# Altium footprint library M20-9990245.PcbLib: 1 footprints
Each footprint in its own frame and in the unit in brackets; x right, y up, seen from the top. Pads: shape width x height; smd on the part's side, far side on the other; paste and mask are expansions set on the pad; w line width, h text height; cw(c..) or ccw(c..) is an arc to the next point about the centre after c.
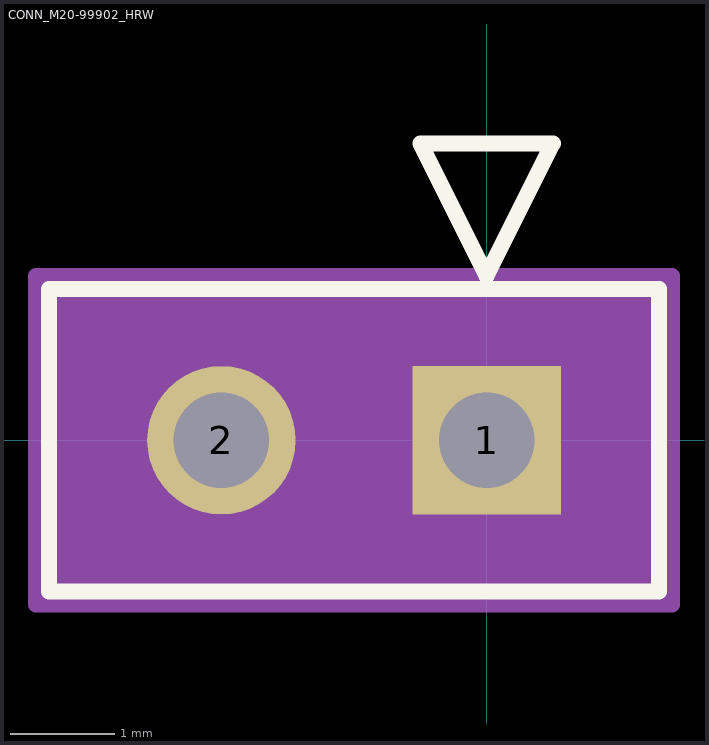
[diagram p0: the footprint, top view; thin cyan lines are the x and y axes]

## CONN_M20-99902_HRW [mil]
pads (2):
  rect 56x56 / inner round 60 / far side rect 56x56 hole 36 paste-28 mask+0: 1(0,0)
  round 56 / inner round 60 / far side round 56 hole 36 paste-28 mask+0: 2(-100,0)
Top Overlay:
  lines w6: -165,-57 -165,57 65,57 65,-57 -165,-57 ; -25,112 25,112 0,62 -25,112
Mechanical 13:
  lines w1: -160,-52 -160,52 60,52 60,-52 -160,-52 ; -25,112 25,112 0,62 -25,112
Mechanical 15:
  region: 70,62 -170,62 -170,-62 70,-62
  lines w6: -170,-62 70,-62 70,62 -170,62 -170,-62
3D body "CON2_1X2_P100RM_HDR_TYC.step": height 100, standoff -250, extent -150,-492.5 50,12.5